# Altium schematic symbol library SamacSys.SchLib: 5 symbols
Pins are listed as number, name and electrical type; pins without a type are passive.

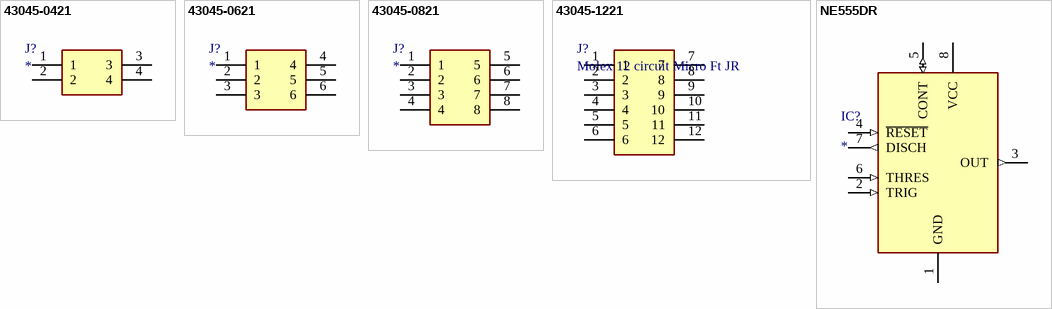
[diagram p0: symbols 43045-0421 to NE555DR]

## 43045-0421
designator J?
Connector; Manufacturer_Name: Molex; Manufacturer_Part_Number: 43045-0421; Allied_Number: 70091003; Datasheet Link: https://www.molex.com/pdm_docs/sd/430450421_sd.pdf; Height: 8.77mm; Mouser Part Number: 538-43045-0421; Mouser Price/Stock: https://www.mouser.com/Search/Refine.aspx?Keyword=538-43045-0421; RS Part Number: 6700346; RS Price/Stock: https://uk.rs-online.com/web/p/products/6700346; Allied Price/Stock: https://www.alliedelec.com/molexincorporated-43045-0421/70091003/
footprint 43045-0421 (Micro-Fit 3.0 Right Angle Header, 3.00mm Pitch, Dual Row, 4 Circuits, with Snap-in Plastic Peg PCB Lock, Tin, Glow Wire Capable, Black, 43045-0421)
pins: 1, 2, 3, 4

## 43045-0621
designator J?
Connector; Manufacturer_Name: Molex; Manufacturer_Part_Number: 43045-0621; Datasheet Link: http://www.molex.com/webdocs/datasheets/pdf/en-us//0430450621_PCB_HEADERS.pdf; Height: 8mm; Mouser Part Number: 538-43045-0621; Mouser Price/Stock: https://www.mouser.com/Search/Refine.aspx?Keyword=538-43045-0621; RS Part Number: 6700380; RS Price/Stock: https://uk.rs-online.com/web/p/products/6700380
footprint 43045-0621 (Micro-Fit 3.0 Right Angle Header, 3.00mm Pitch, Dual Row, 6 Circuits, with Snap-in Plastic Peg PCB Lock, Tin, Glow Wire Capable, Black, 43045-0621)
pins: 1, 2, 3, 4, 5, 6

## 43045-0821
designator J?
Connector; Manufacturer_Name: Molex; Manufacturer_Part_Number: 43045-0821; Datasheet Link: http://www.molex.com/webdocs/datasheets/pdf/en-us//0430450621_PCB_HEADERS.pdf; Height: 8mm; Mouser Part Number: 538-43045-0821; Mouser Price/Stock: https://www.mouser.com/Search/Refine.aspx?Keyword=538-43045-0821
footprint 43045-0821 (Micro-Fit 3.0 Right Angle Header, 3.00mm Pitch, Dual Row, 4 Circuits, with Snap-in Plastic Peg PCB Lock, Tin, Glow Wire Capable, Black, 43045-0821)
pins: 1, 2, 3, 4, 5, 6, 7, 8

## 43045-1221
designator J?, comment Molex 12 circuit Micro Ft JR
Connector; Manufacturer_Part_Number: 43045-1221; Datasheet Link: http://www.molex.com/webdocs/datasheets/pdf/en-us//0430451221_PCB_HEADERS.pdf; Height: 8mm; Manufacturer_Name: Molex; Mouser Part Number: 538-43045-1221; Mouser Price/Stock: https://www.mouser.com/Search/Refine.aspx?Keyword=538-43045-1221
footprint 43045-1221 (Micro-Fit 3.0 Right Angle Header, 3.00mm Pitch, Dual Row, 12 Circuits, with Snap-in Plastic Peg PCB Lock, Tin, Glow Wire Capable, Black, 43045-1221)
pins: 1, 2, 3, 4, 5, 6, 7, 8, 9, 10, 11, 12

## NE555DR
designator IC?
Integrated Circuit; Manufacturer_Name: Texas Instruments; Manufacturer_Part_Number: NE555DR; Datasheet Link: http://www.ti.com/lit/ds/symlink/ne555.pdf; Height: 1.75mm; Mouser Part Number: 595-NE555DR; Mouser Price/Stock: https://www.mouser.com/Search/Refine.aspx?Keyword=595-NE555DR; RS Part Number: 1218414; RS Price/Stock: http://uk.rs-online.com/web/p/products/1218414
footprint SOIC127P600X175-8N
pins: 1 GND (power), 2 TRIG (in), 3 OUT (out), 4 ~{RESET} (in), 5 CONT (io), 6 THRES (in), 7 DISCH (out), 8 VCC (power)